# EAGLE library part HCNR201 (library opto)
HCNR201: Linear analog optocoupler (Hewlett Packard) 0.01% nonlinearity, ±5% transfer gain
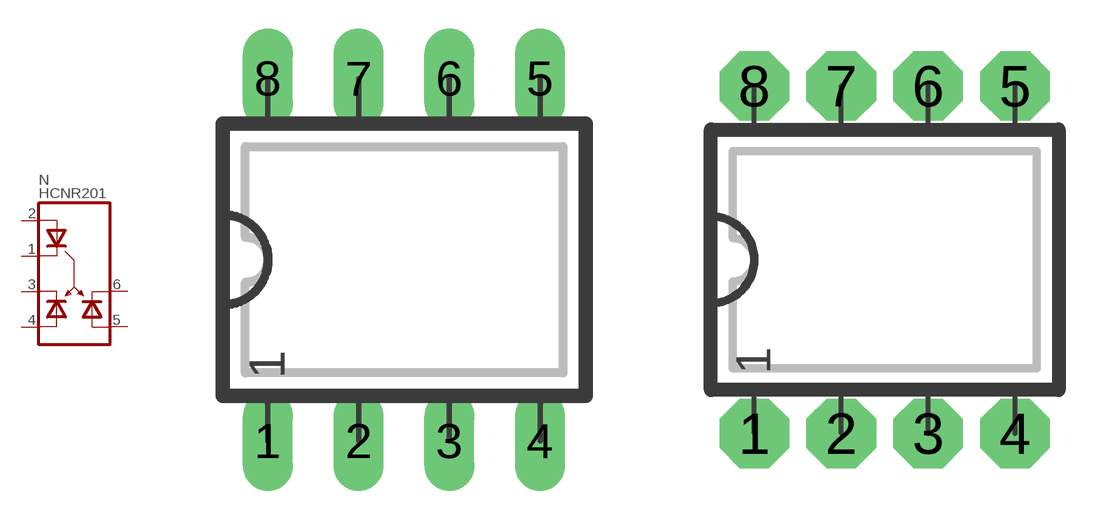
[diagram p14: symbol with the pads of DIP08L-4; footprints DIP08L-4, DIP08N-4]

Designator prefix N

## HCNR201  [DIP08L-4]
1  INC  in
2  INA  in
3  O1C
4  O1A
5  O2A
6  O2C

## HCNR201L  [DIP08L-4]
Pads as for DIP08L-4

## HCNR201N  [DIP08N-4]
Pads as for DIP08L-4

## HCNR201R  [DIP08R-4]
Pads as for DIP08L-4

## Footprint DIP08L-4 (pad centres in mm)
DIP-8, wide, long pads IC package, 0.4" wide, 8 pins
drill 0.813 pad 1.397 long: 1 0,0; 2 2.54,0; 3 5.08,0; 4 7.62,0; 5 7.62,10.16; 6 5.08,10.16; 7 2.54,10.16; 8 0,10.16

## Footprint DIP08N-4 (pad centres in mm)
DIP-8, wide IC package, 0.4" wide, 8 pins
drill 0.813 pad 2.032 octagon: 1 0,0; 2 2.54,0; 3 5.08,0; 4 7.62,0; 5 7.62,10.16; 6 5.08,10.16; 7 2.54,10.16; 8 0,10.16

## Footprint DIP08R-4 (pad centres in mm)
DIP-8, wide, reduced pads IC package, 0.4" wide, 8 pins
drill 0.813 pad 1.397 square: 1 0,0; 2 2.54,0; 3 5.08,0; 4 7.62,0; 5 7.62,10.16; 6 5.08,10.16; 7 2.54,10.16; 8 0,10.16